# Altium footprint library SOT65P210X110-3N.PcbLib: 1 footprints
Each footprint in its own frame and in the unit in brackets; x right, y up, seen from the top. Pads: shape width x height; smd on the part's side, far side on the other; paste and mask are expansions set on the pad; w line width, h text height; cw(c..) or ccw(c..) is an arc to the next point about the centre after c.
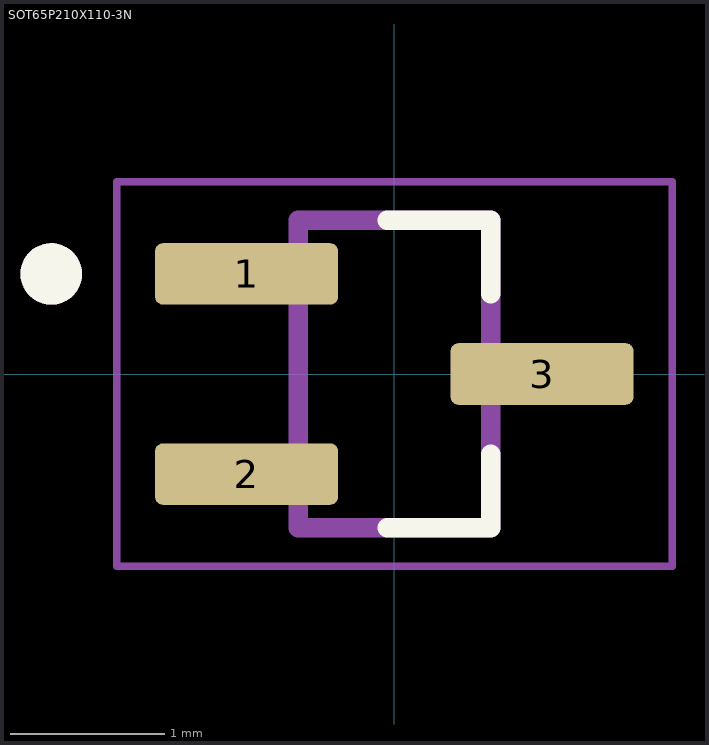
[diagram p0: the footprint, top view; thin cyan lines are the x and y axes]

## SOT65P210X110-3N [mm]
pads (3):
  rrect25% 1.19x0.4 smd paste+0 mask+0.102: 1(-0.96,0.65) 2(-0.96,-0.65) 3(0.96,0)
Top Overlay:
  circle w0.2: c-2.23,0.65 r0.1
  lines w0.127: -0.045,-1 0.625,-1 0.625,-0.52 ; -0.045,1 0.625,1 0.625,0.52
Assembly Top:
  circle w0.2: c-2.23,0.65 r0.1
  lines w0.127: -0.625,-1 -0.625,1 0.625,1 0.625,-1 -0.625,-1
Courtyard Top:
  lines w0.05: -1.805,-1.25 1.805,-1.25 1.805,1.25 -1.805,1.25 -1.805,-1.25